# EAGLE library part MSP430G2210 (library ti_msp430)
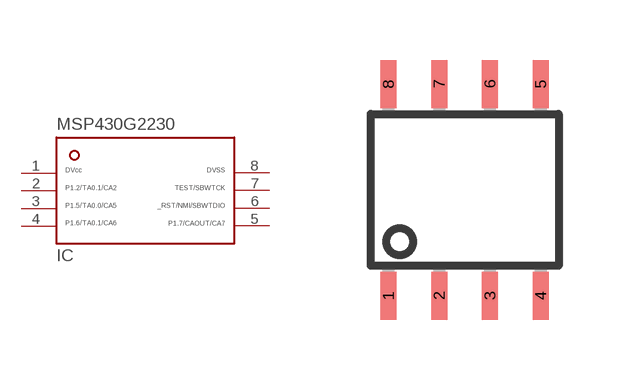
[diagram p24: symbol with the pads of D_R-PDSO-G08; footprint D_R-PDSO-G08]

Designator prefix IC

## MSP430G2210D  [D_R-PDSO-G08]
1  1
2  2
3  3
4  4
5  5
6  6
7  7
8  8

## Footprint D_R-PDSO-G08 (pad centres in mm)
PLASTIC SMALL-OUTLINE PACKAGE SO 14 JEDEC MS-012, D Type Source: www.ti.com/.. slvs087l.pdf
smd 0.4 x 1.2: 1 -1.905,-2.65; 2 -0.635,-2.65; 3 0.635,-2.65; 4 1.905,-2.65; 5 1.905,2.65; 6 0.635,2.65; 7 -0.635,2.65; 8 -1.905,2.65